# EAGLE library part 621016242921 (library Wuerth_Elektronik_eiCan_Pin_&_Socked_Headers_v1.3)
WR-PHD 2.00mm Dual SMT Socket Header, 16 Pins
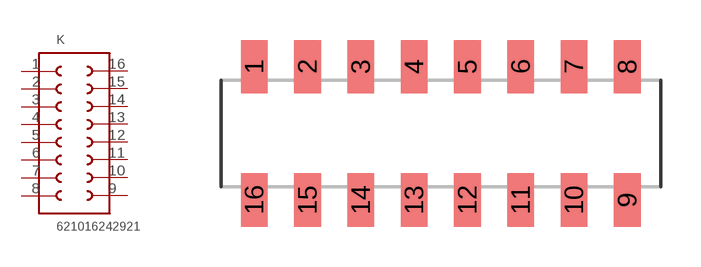
[diagram p307: symbol with the pads of 621016242921; footprint 621016242921]

Designator prefix K

## 621016242921  [621016242921]
1  1  pas
2  2  pas
3  3  pas
4  4  pas
5  5  pas
6  6  pas
7  7  pas
8  8  pas
9  9  pas
10  10  pas
11  11  pas
12  12  pas
13  13  pas
14  14  pas
15  15  pas
16  16  pas

## Footprint 621016242921 (pad centres in mm)
WR-PHD 2.00mm Dual SMT Socket Header, 16 Pins
smd 1 x 2: 1 -7,2.5; 2 -5,2.5; 3 -3,2.5; 4 -1,2.5; 5 1,2.5; 6 3,2.5; 7 5,2.5; 8 7,2.5; 9 7,-2.5; 10 5,-2.5; 11 3,-2.5; 12 1,-2.5; 13 -1,-2.5; 14 -3,-2.5; 15 -5,-2.5; 16 -7,-2.5